# Altium schematic symbol library 0ZCF0200AF2C.SchLib: 1 symbol
Pins are listed as number, name and electrical type; pins without a type are passive.

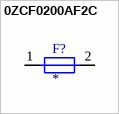
[diagram p0: symbol 0ZCF0200AF2C]

## 0ZCF0200AF2C
designator F?
2920 SMT PPTC | 2.00 Ih | 24V; MP: 0ZCF0200AF2C; MF: Bel Fuse; SnapEDA_Link: https://www.snapeda.com/parts/0ZCF0200AF2C/Bel+Fuse+Inc./view-part/?ref=snap; Package: 2920 Bel Fuse; Check_prices: https://www.snapeda.com/parts/0ZCF0200AF2C/Bel+Fuse+Inc./view-part/?ref=eda; Purchase-URL: https://pricing.snapeda.com/search/part/0ZCF0200AF2C/?ref=eda; Digi-Key_Part_Number: 507-1749-2-ND; Value: *
footprint FUSE_0ZCF0075AF2C
pins: 1, 2